# EAGLE library part 74541 (library dooba)
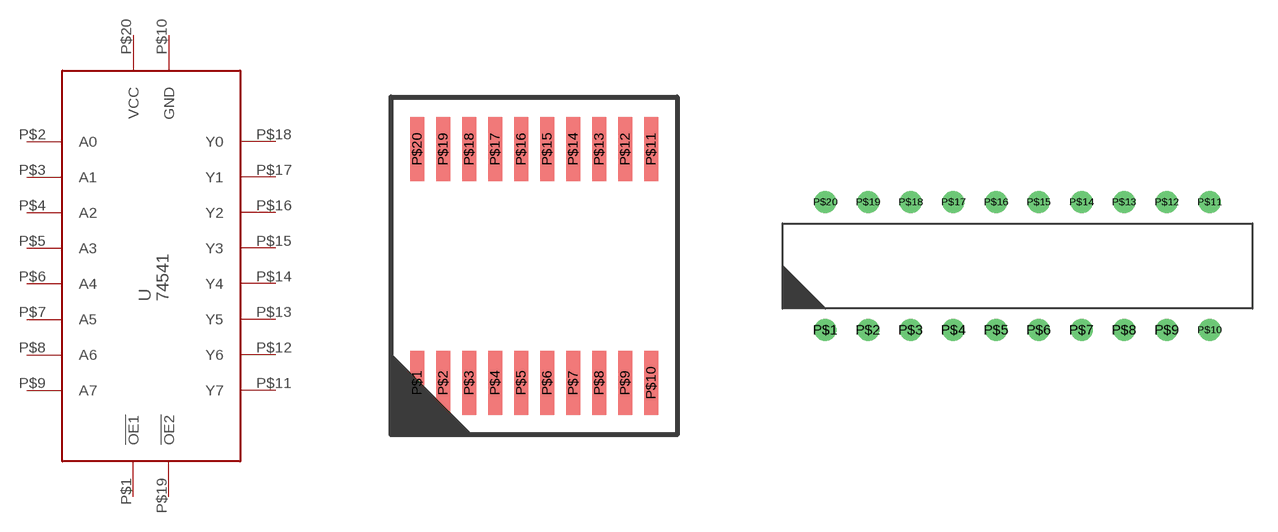
[diagram p37: symbol with the pads of TSSOP-20; footprints TSSOP-20, PDIP20]

Designator prefix U

## 74541TSSOP20  [TSSOP-20]
P$1  !OE1
P$2  A0
P$3  A1
P$4  A2
P$5  A3
P$6  A4
P$7  A5
P$8  A6
P$9  A7
P$10  GND
P$11  Y7
P$12  Y6
P$13  Y5
P$14  Y4
P$15  Y3
P$16  Y2
P$17  Y1
P$18  Y0
P$19  !OE2
P$20  VCC

## 74541PDIP  [PDIP20]
Pads as for TSSOP-20

## Footprint TSSOP-20 (pad centres in mm)
smd 0.35 x 1.6: P$1 -2.925,-2.925; P$2 -2.275,-2.925; P$3 -1.625,-2.925; P$4 -0.975,-2.925; P$5 -0.325,-2.925; P$6 0.325,-2.925; P$7 0.975,-2.925; P$8 1.625,-2.925; P$9 2.275,-2.925; P$10 2.925,-2.925; P$11 2.925,2.925; P$12 2.275,2.925; P$13 1.625,2.925; P$14 0.975,2.925; P$15 0.325,2.925; P$16 -0.325,2.925; P$17 -0.975,2.925; P$18 -1.625,2.925; P$19 -2.275,2.925; P$20 -2.925,2.925

## Footprint PDIP20 (pad centres in mm)
drill 0.8: P$1 -11.43,-3.81; P$2 -8.89,-3.81; P$3 -6.35,-3.81; P$4 -3.81,-3.81; P$5 -1.27,-3.81; P$6 1.27,-3.81; P$7 3.81,-3.81; P$8 6.35,-3.81; P$9 8.89,-3.81; P$10 11.43,-3.81; P$11 11.43,3.81; P$12 8.89,3.81; P$13 6.35,3.81; P$14 3.81,3.81; P$15 1.27,3.81; P$16 -1.27,3.81; P$17 -3.81,3.81; P$18 -6.35,3.81; P$19 -8.89,3.81; P$20 -11.43,3.81